# Altium schematic symbol library EthernetPHY_VITESSE_VSC8641_100EP-LQFP_V1_2.SchLib: 1 symbol
Pins are listed as number, name and electrical type; pins without a type are passive.

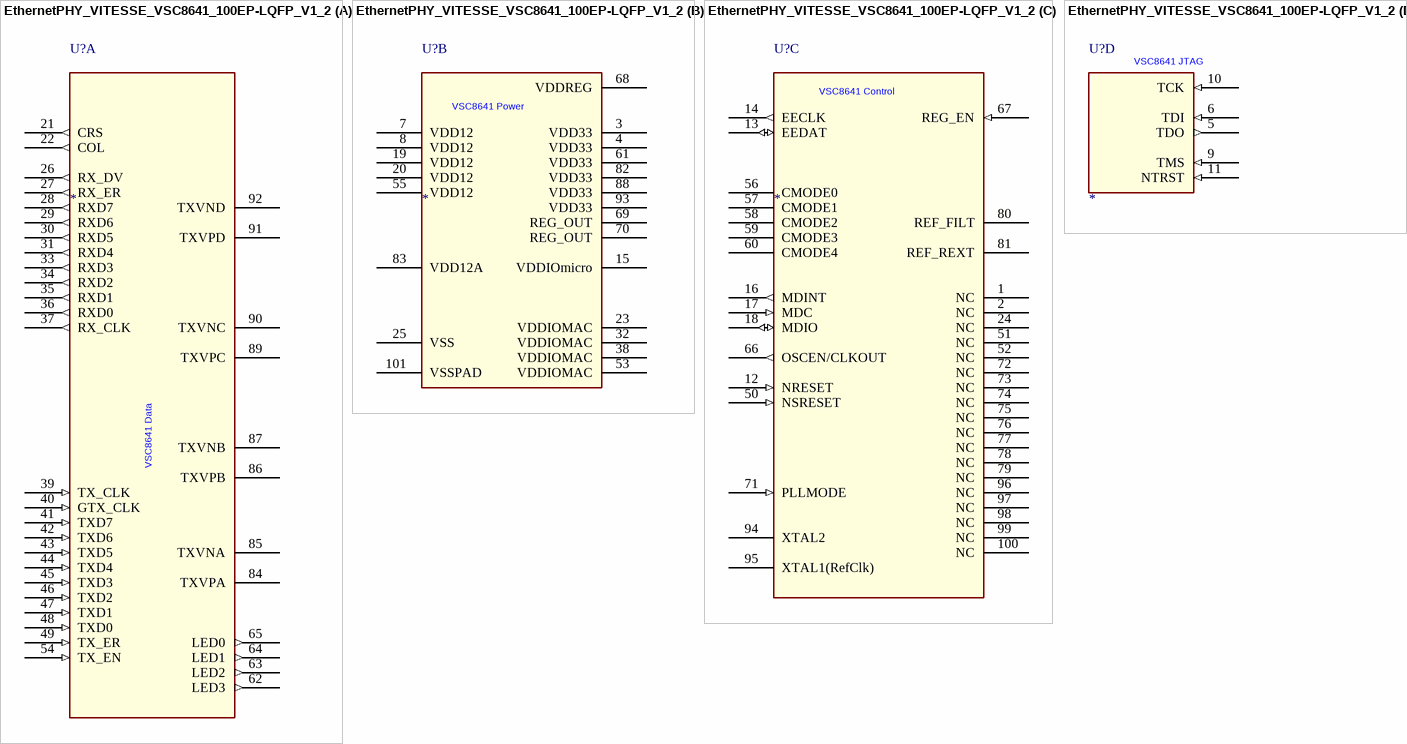
[diagram p0: symbol EthernetPHY_VITESSE_VSC8641_100EP-LQFP_V1_2]

## EthernetPHY_VITESSE_VSC8641_100EP-LQFP_V1_2
designator U?
part A pins: 21 CRS (out), 22 COL (out), 26 RX_DV (out), 27 RX_ER (out), 28 RXD7 (out), 29 RXD6 (out), 30 RXD5 (out), 31 RXD4 (out), 33 RXD3 (out), 34 RXD2 (out), 35 RXD1 (out), 36 RXD0 (out), 37 RX_CLK (out), 39 TX_CLK (in), 40 GTX_CLK (in), 41 TXD7 (in), 42 TXD6 (in), 43 TXD5 (in), 44 TXD4 (in), 45 TXD3 (in), 46 TXD2 (in), 47 TXD1 (in), 48 TXD0 (in), 49 TX_ER (in), 54 TX_EN (in), 62 LED3 (out), 63 LED2 (out), 64 LED1 (out), 65 LED0 (out), 84 TXVPA, 85 TXVNA, 86 TXVPB, 87 TXVNB, 89 TXVPC, 90 TXVNC, 91 TXVPD, 92 TXVND
part B pins: 3 VDD33 (power), 4 VDD33 (power), 7 VDD12 (power), 8 VDD12 (power), 15 VDDIOmicro (power), 19 VDD12 (power), 20 VDD12 (power), 23 VDDIOMAC (power), 25 VSS (power), 32 VDDIOMAC (power), 38 VDDIOMAC (power), 53 VDDIOMAC (power), 55 VDD12 (power), 61 VDD33 (power), 68 VDDREG (power), 69 REG_OUT (power), 70 REG_OUT (power), 82 VDD33 (power), 83 VDD12A (power), 88 VDD33 (power), 93 VDD33 (power), 101 VSSPAD (power)
part C pins: 1 NC, 2 NC, 12 NRESET (in), 13 EEDAT (io), 14 EECLK (out), 16 MDINT (out), 17 MDC (in), 18 MDIO (io), 24 NC, 50 NSRESET (in), 51 NC, 52 NC, 56 CMODE0, 57 CMODE1, 58 CMODE2, 59 CMODE3, 60 CMODE4, 66 OSCEN/CLKOUT (out), 67 REG_EN (in), 71 PLLMODE (in), 72 NC, 73 NC, 74 NC, 75 NC, 76 NC, 77 NC, 78 NC, 79 NC, 80 REF_FILT, 81 REF_REXT, 94 XTAL2, 95 XTAL1(RefClk), 96 NC, 97 NC, 98 NC, 99 NC, 100 NC
part D pins: 5 TDO (out), 6 TDI (in), 9 TMS (in), 10 TCK (in), 11 NTRST (in)
part A text: VSC8641 Data
part B text: VSC8641 Power
part C text: VSC8641 Control
part D text: VSC8641 JTAG